# Altium schematic symbol library jlcpcb_2025_04_inductors_extended_0201.schlib: 459 symbols (part 6 of 9)
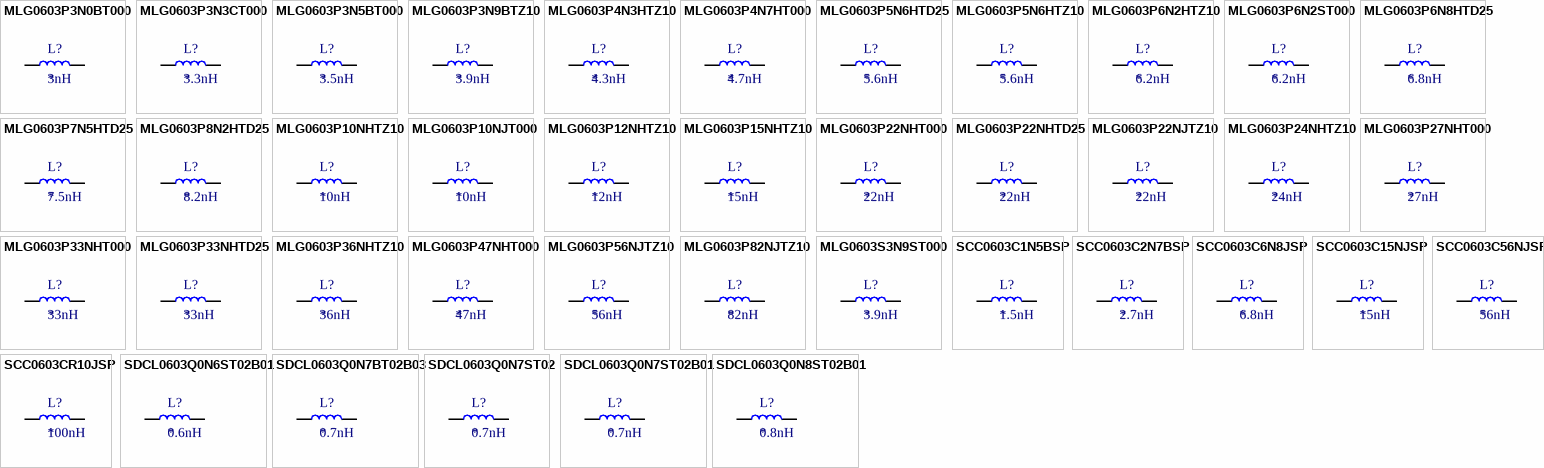
[diagram p16: symbols MLG0603P3N0BT000 to SDCL0603Q0N8ST02B01]

## SCC0603CR10JSP
designator L?  Inductance: 100nH
Inductor, 100nH, ±5%, 4Ω, 60mA, SMD 0201; Manufacturer: Sunltech Tech; Manufacturer Part Number: SCC0603CR10JSP; Package Size: 0201; JLCPCB Basic Part: No; JLCPCB Part Number: C412083; Supplier 1: LCSC; Category: Inductors; Supplier Part Number 1: C412083; Tolerance: ±5%; Rated Current: 60mA; DC Resistance: 4Ω; RoHS: Yes; ComponentLink1Description: Datasheet; ComponentLink1URL: https://wmsc.lcsc.com/wmsc/upload/file/pdf/v2/lcsc/1912111437_Sunltech-Tech-SCC0603CR10JSP_C412083.pdf; ComponentLink2Description: JLCPCB Part URL; ComponentLink2URL: https://jlcpcb.com/partdetail/C412083; ComponentLink3Description: LCSC Part URL; ComponentLink3URL: https://lcsc.com/product-detail/Inductors-SMD_Sunltech-Tech-Sunltech-Tech-SCC0603CR10JSP_C412083.html
footprint IND-0201 (0201 (0603M) Inductor)
pins: 1, 2

## SDCL0603Q0N6ST02B01
designator L?  Inductance: 0.6nH
Inductor, 0.6nH, 60mΩ, 600mA, SMD 0201; Manufacturer: Sunlord; Manufacturer Part Number: SDCL0603Q0N6ST02B01; Self-Resonant Frequency: 10GHz; Package Size: 0201; JLCPCB Basic Part: No; JLCPCB Part Number: C408405; Supplier 1: LCSC; Category: Inductors; Supplier Part Number 1: C408405; Rated Current: 600mA; DC Resistance: 60mΩ; RoHS: Yes; ComponentLink1Description: Datasheet; ComponentLink1URL: https://wmsc.lcsc.com/wmsc/upload/file/pdf/v2/lcsc/2304140030_Sunlord-SDCL0603Q0N6ST02B01_C408405.pdf; ComponentLink2Description: JLCPCB Part URL; ComponentLink2URL: https://jlcpcb.com/partdetail/C408405; ComponentLink3Description: LCSC Part URL; ComponentLink3URL: https://lcsc.com/product-detail/Inductors-SMD_Sunlord-Sunlord-SDCL0603Q0N6ST02B01_C408405.html
footprint IND-0201 (0201 (0603M) Inductor)
pins: 1, 2

## SDCL0603Q0N7BT02B03
designator L?  Inductance: 0.7nH
Inductor, 0.7nH, 60mΩ, 800mA, SMD 0201; Manufacturer: Sunlord; Manufacturer Part Number: SDCL0603Q0N7BT02B03; Self-Resonant Frequency: 20GHz; Q Factor: 13@500MHz; Package Size: 0201; JLCPCB Basic Part: No; JLCPCB Part Number: C525656; Supplier 1: LCSC; Category: Inductors; Supplier Part Number 1: C525656; Rated Current: 800mA; DC Resistance: 60mΩ; RoHS: Yes; ComponentLink1Description: Datasheet; ComponentLink1URL: https://wmsc.lcsc.com/wmsc/upload/file/pdf/v2/lcsc/2310301641_Sunlord-SDCL0603Q0N7BT02B03_C525656.pdf; ComponentLink2Description: JLCPCB Part URL; ComponentLink2URL: https://jlcpcb.com/partdetail/C525656; ComponentLink3Description: LCSC Part URL; ComponentLink3URL: https://lcsc.com/product-detail/Inductors-SMD_Sunlord-Sunlord-SDCL0603Q0N7BT02B03_C525656.html
footprint IND-0201 (0201 (0603M) Inductor)
pins: 1, 2

## SDCL0603Q0N7ST02
designator L?  Inductance: 0.7nH
Inductor, 0.7nH, 60mΩ, 150mA, SMD 0201; Manufacturer: Sunlord; Manufacturer Part Number: SDCL0603Q0N7ST02; Package Size: 0201; JLCPCB Basic Part: No; JLCPCB Part Number: C95900; Supplier 1: LCSC; Category: Inductors; Supplier Part Number 1: C95900; Rated Current: 150mA; DC Resistance: 60mΩ; RoHS: Yes; ComponentLink1Description: Datasheet; ComponentLink1URL: https://wmsc.lcsc.com/wmsc/upload/file/pdf/v2/lcsc/2304140030_Sunlord-SDCL0603Q0N7ST02_C95900.pdf; ComponentLink2Description: JLCPCB Part URL; ComponentLink2URL: https://jlcpcb.com/partdetail/C95900; ComponentLink3Description: LCSC Part URL; ComponentLink3URL: https://lcsc.com/product-detail/Inductors-SMD_Sunlord-Sunlord-SDCL0603Q0N7ST02_C95900.html
footprint IND-0201 (0201 (0603M) Inductor)
pins: 1, 2

## SDCL0603Q0N7ST02B01
designator L?  Inductance: 0.7nH
Inductor, 0.7nH, 60mΩ, 550mA, SMD 0201; Manufacturer: Sunlord; Manufacturer Part Number: SDCL0603Q0N7ST02B01; Self-Resonant Frequency: 10GHz; Q Factor: 13@500MHz; Package Size: 0201; JLCPCB Basic Part: No; JLCPCB Part Number: C408406; Supplier 1: LCSC; Category: Inductors; Supplier Part Number 1: C408406; Rated Current: 550mA; DC Resistance: 60mΩ; RoHS: Yes; ComponentLink1Description: Datasheet; ComponentLink1URL: https://wmsc.lcsc.com/wmsc/upload/file/pdf/v2/lcsc/2304140030_Sunlord-SDCL0603Q0N7ST02B01_C408406.pdf; ComponentLink2Description: JLCPCB Part URL; ComponentLink2URL: https://jlcpcb.com/partdetail/C408406; ComponentLink3Description: LCSC Part URL; ComponentLink3URL: https://lcsc.com/product-detail/Inductors-SMD_Sunlord-Sunlord-SDCL0603Q0N7ST02B01_C408406.html
footprint IND-0201 (0201 (0603M) Inductor)
pins: 1, 2

## SDCL0603Q0N8ST02B01
designator L?  Inductance: 0.8nH
Inductor, 0.8nH, 70mΩ, 550mA, SMD 0201; Manufacturer: Sunlord; Manufacturer Part Number: SDCL0603Q0N8ST02B01; Self-Resonant Frequency: 10GHz; Q Factor: 13@500MHz; Package Size: 0201; JLCPCB Basic Part: No; JLCPCB Part Number: C408612; Supplier 1: LCSC; Category: Inductors; Supplier Part Number 1: C408612; Rated Current: 550mA; DC Resistance: 70mΩ; RoHS: Yes; ComponentLink1Description: Datasheet; ComponentLink1URL: https://wmsc.lcsc.com/wmsc/upload/file/pdf/v2/lcsc/2304140030_Sunlord-SDCL0603Q0N8ST02B01_C408612.pdf; ComponentLink2Description: JLCPCB Part URL; ComponentLink2URL: https://jlcpcb.com/partdetail/C408612; ComponentLink3Description: LCSC Part URL; ComponentLink3URL: https://lcsc.com/product-detail/Inductors-SMD_Sunlord-Sunlord-SDCL0603Q0N8ST02B01_C408612.html
footprint IND-0201 (0201 (0603M) Inductor)
pins: 1, 2

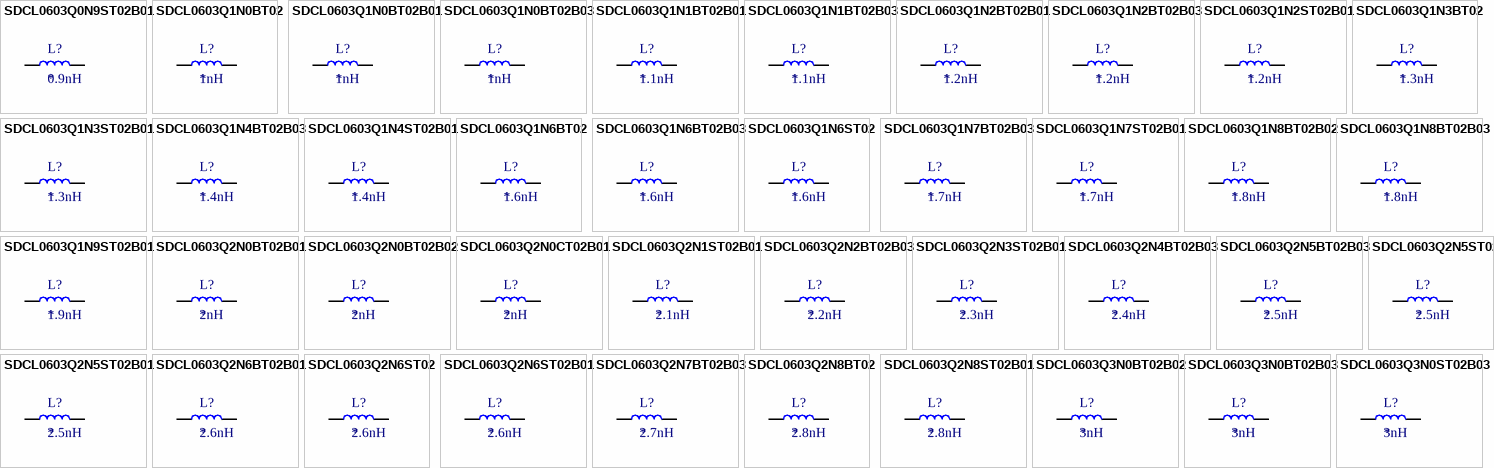
[diagram p7: symbols SDCL0603Q0N9ST02B01 to SDCL0603Q3N0ST02B03]

## SDCL0603Q0N9ST02B01
designator L?  Inductance: 0.9nH
Inductor, 0.9nH, 70mΩ, 550mA, SMD 0201; Manufacturer: Sunlord; Manufacturer Part Number: SDCL0603Q0N9ST02B01; Self-Resonant Frequency: 10GHz; Q Factor: 13@500MHz; Package Size: 0201; JLCPCB Basic Part: No; JLCPCB Part Number: C408613; Supplier 1: LCSC; Category: Inductors; Supplier Part Number 1: C408613; Rated Current: 550mA; DC Resistance: 70mΩ; RoHS: Yes; ComponentLink1Description: Datasheet; ComponentLink1URL: https://wmsc.lcsc.com/wmsc/upload/file/pdf/v2/lcsc/2304140030_Sunlord-SDCL0603Q0N9ST02B01_C408613.pdf; ComponentLink2Description: JLCPCB Part URL; ComponentLink2URL: https://jlcpcb.com/partdetail/C408613; ComponentLink3Description: LCSC Part URL; ComponentLink3URL: https://lcsc.com/product-detail/Inductors-SMD_Sunlord-Sunlord-SDCL0603Q0N9ST02B01_C408613.html
footprint IND-0201 (0201 (0603M) Inductor)
pins: 1, 2

## SDCL0603Q1N0BT02
designator L?  Inductance: 1nH
Inductor, 1nH, 80mΩ, 520mA, SMD 0201; Manufacturer: Sunlord; Manufacturer Part Number: SDCL0603Q1N0BT02; Package Size: 0201; JLCPCB Basic Part: No; JLCPCB Part Number: C279683; Supplier 1: LCSC; Category: Inductors; Supplier Part Number 1: C279683; Rated Current: 520mA; DC Resistance: 80mΩ; RoHS: Yes; ComponentLink1Description: Datasheet; ComponentLink1URL: https://wmsc.lcsc.com/wmsc/upload/file/pdf/v2/lcsc/2304140030_Sunlord-SDCL0603Q1N0BT02_C279683.pdf; ComponentLink2Description: JLCPCB Part URL; ComponentLink2URL: https://jlcpcb.com/partdetail/C279683; ComponentLink3Description: LCSC Part URL; ComponentLink3URL: https://lcsc.com/product-detail/Inductors-SMD_Sunlord-Sunlord-SDCL0603Q1N0BT02_C279683.html
footprint IND-0201 (0201 (0603M) Inductor)
pins: 1, 2

## SDCL0603Q1N0BT02B01
designator L?  Inductance: 1nH
Inductor, 1nH, 80mΩ, 520mA, SMD 0201; Manufacturer: Sunlord; Manufacturer Part Number: SDCL0603Q1N0BT02B01; Package Size: 0201; JLCPCB Basic Part: No; JLCPCB Part Number: C279670; Supplier 1: LCSC; Category: Inductors; Supplier Part Number 1: C279670; Rated Current: 520mA; DC Resistance: 80mΩ; RoHS: Yes; ComponentLink1Description: Datasheet; ComponentLink1URL: https://wmsc.lcsc.com/wmsc/upload/file/pdf/v2/lcsc/2304140030_Sunlord-SDCL0603Q1N0BT02B01_C279670.pdf; ComponentLink2Description: JLCPCB Part URL; ComponentLink2URL: https://jlcpcb.com/partdetail/C279670; ComponentLink3Description: LCSC Part URL; ComponentLink3URL: https://lcsc.com/product-detail/Inductors-SMD_Sunlord-Sunlord-SDCL0603Q1N0BT02B01_C279670.html
footprint IND-0201 (0201 (0603M) Inductor)
pins: 1, 2

## SDCL0603Q1N0BT02B03
designator L?  Inductance: 1nH
Inductor, 1nH, 80mΩ, 750mA, SMD 0201; Manufacturer: Sunlord; Manufacturer Part Number: SDCL0603Q1N0BT02B03; Self-Resonant Frequency: 500MHz; Q Factor: 13@500MHz; Package Size: 0201; JLCPCB Basic Part: No; JLCPCB Part Number: C279744; Supplier 1: LCSC; Category: Inductors; Supplier Part Number 1: C279744; Rated Current: 750mA; DC Resistance: 80mΩ; RoHS: Yes; ComponentLink1Description: Datasheet; ComponentLink1URL: https://wmsc.lcsc.com/wmsc/upload/file/pdf/v2/lcsc/2310301641_Sunlord-SDCL0603Q1N0BT02B03_C279744.pdf; ComponentLink2Description: JLCPCB Part URL; ComponentLink2URL: https://jlcpcb.com/partdetail/C279744; ComponentLink3Description: LCSC Part URL; ComponentLink3URL: https://lcsc.com/product-detail/Inductors-SMD_Sunlord-Sunlord-SDCL0603Q1N0BT02B03_C279744.html
footprint IND-0201 (0201 (0603M) Inductor)
pins: 1, 2

## SDCL0603Q1N1BT02B01
designator L?  Inductance: 1.1nH
Inductor, 1.1nH, SMD 0201; Manufacturer: Sunlord; Manufacturer Part Number: SDCL0603Q1N1BT02B01; Package Size: 0201; JLCPCB Basic Part: No; JLCPCB Part Number: C918984; Supplier 1: LCSC; Category: Inductors; Supplier Part Number 1: C918984; RoHS: Yes; ComponentLink1Description: Datasheet; ComponentLink2Description: JLCPCB Part URL; ComponentLink2URL: https://jlcpcb.com/partdetail/C918984; ComponentLink3Description: LCSC Part URL; ComponentLink3URL: https://lcsc.com/product-detail/Inductors-SMD_Sunlord-Sunlord-SDCL0603Q1N1BT02B01_C918984.html
footprint IND-0201 (0201 (0603M) Inductor)
pins: 1, 2

## SDCL0603Q1N1BT02B03
designator L?  Inductance: 1.1nH
Inductor, 1.1nH, 100mΩ, 750mA, SMD 0201; Manufacturer: Sunlord; Manufacturer Part Number: SDCL0603Q1N1BT02B03; Self-Resonant Frequency: 17GHz; Q Factor: 13@500MHz; Package Size: 0201; JLCPCB Basic Part: No; JLCPCB Part Number: C370115; Supplier 1: LCSC; Category: Inductors; Supplier Part Number 1: C370115; Rated Current: 750mA; DC Resistance: 100mΩ; RoHS: Yes; ComponentLink1Description: Datasheet; ComponentLink1URL: https://wmsc.lcsc.com/wmsc/upload/file/pdf/v2/lcsc/2310301641_Sunlord-SDCL0603Q1N1BT02B03_C370115.pdf; ComponentLink2Description: JLCPCB Part URL; ComponentLink2URL: https://jlcpcb.com/partdetail/C370115; ComponentLink3Description: LCSC Part URL; ComponentLink3URL: https://lcsc.com/product-detail/Inductors-SMD_Sunlord-Sunlord-SDCL0603Q1N1BT02B03_C370115.html
footprint IND-0201 (0201 (0603M) Inductor)
pins: 1, 2

## SDCL0603Q1N2BT02B01
designator L?  Inductance: 1.2nH
Inductor, 1.2nH, 120mΩ, 420mA, SMD 0201; Manufacturer: Sunlord; Manufacturer Part Number: SDCL0603Q1N2BT02B01; Package Size: 0201; JLCPCB Basic Part: No; JLCPCB Part Number: C279677; Supplier 1: LCSC; Category: Inductors; Supplier Part Number 1: C279677; Rated Current: 420mA; DC Resistance: 120mΩ; RoHS: Yes; ComponentLink1Description: Datasheet; ComponentLink1URL: https://wmsc.lcsc.com/wmsc/upload/file/pdf/v2/lcsc/2304140030_Sunlord-SDCL0603Q1N2BT02B01_C279677.pdf; ComponentLink2Description: JLCPCB Part URL; ComponentLink2URL: https://jlcpcb.com/partdetail/C279677; ComponentLink3Description: LCSC Part URL; ComponentLink3URL: https://lcsc.com/product-detail/Inductors-SMD_Sunlord-Sunlord-SDCL0603Q1N2BT02B01_C279677.html
footprint IND-0201 (0201 (0603M) Inductor)
pins: 1, 2

## SDCL0603Q1N2BT02B03
designator L?  Inductance: 1.2nH
Inductor, 1.2nH, 100mΩ, 750mA, SMD 0201; Manufacturer: Sunlord; Manufacturer Part Number: SDCL0603Q1N2BT02B03; Self-Resonant Frequency: 500MHz; Q Factor: 13@500MHz; Package Size: 0201; JLCPCB Basic Part: No; JLCPCB Part Number: C370116; Supplier 1: LCSC; Category: Inductors; Supplier Part Number 1: C370116; Rated Current: 750mA; DC Resistance: 100mΩ; RoHS: Yes; ComponentLink1Description: Datasheet; ComponentLink1URL: https://wmsc.lcsc.com/wmsc/upload/file/pdf/v2/lcsc/2310301641_Sunlord-SDCL0603Q1N2BT02B03_C370116.pdf; ComponentLink2Description: JLCPCB Part URL; ComponentLink2URL: https://jlcpcb.com/partdetail/C370116; ComponentLink3Description: LCSC Part URL; ComponentLink3URL: https://lcsc.com/product-detail/Inductors-SMD_Sunlord-Sunlord-SDCL0603Q1N2BT02B03_C370116.html
footprint IND-0201 (0201 (0603M) Inductor)
pins: 1, 2

## SDCL0603Q1N2ST02B01
designator L?  Inductance: 1.2nH
Inductor, 1.2nH, 120mΩ, 420mA, SMD 0201; Manufacturer: Sunlord; Manufacturer Part Number: SDCL0603Q1N2ST02B01; Package Size: 0201; JLCPCB Basic Part: No; JLCPCB Part Number: C279701; Supplier 1: LCSC; Category: Inductors; Supplier Part Number 1: C279701; Rated Current: 420mA; DC Resistance: 120mΩ; RoHS: Yes; ComponentLink1Description: Datasheet; ComponentLink1URL: https://wmsc.lcsc.com/wmsc/upload/file/pdf/v2/lcsc/2304140030_Sunlord-SDCL0603Q1N2ST02B01_C279701.pdf; ComponentLink2Description: JLCPCB Part URL; ComponentLink2URL: https://jlcpcb.com/partdetail/C279701; ComponentLink3Description: LCSC Part URL; ComponentLink3URL: https://lcsc.com/product-detail/Inductors-SMD_Sunlord-Sunlord-SDCL0603Q1N2ST02B01_C279701.html
footprint IND-0201 (0201 (0603M) Inductor)
pins: 1, 2

## SDCL0603Q1N3BT02
designator L?  Inductance: 1.3nH
Inductor, 1.3nH, SMD 0201; Manufacturer: Sunlord; Manufacturer Part Number: SDCL0603Q1N3BT02; Package Size: 0201; JLCPCB Basic Part: No; JLCPCB Part Number: C918985; Supplier 1: LCSC; Category: Inductors; Supplier Part Number 1: C918985; RoHS: Yes; ComponentLink1Description: Datasheet; ComponentLink2Description: JLCPCB Part URL; ComponentLink2URL: https://jlcpcb.com/partdetail/C918985; ComponentLink3Description: LCSC Part URL; ComponentLink3URL: https://lcsc.com/product-detail/Inductors-SMD_Sunlord-Sunlord-SDCL0603Q1N3BT02_C918985.html
footprint IND-0201 (0201 (0603M) Inductor)
pins: 1, 2

## SDCL0603Q1N3ST02B01
designator L?  Inductance: 1.3nH
Inductor, 1.3nH, 120mΩ, 420mA, SMD 0201; Manufacturer: Sunlord; Manufacturer Part Number: SDCL0603Q1N3ST02B01; Self-Resonant Frequency: 10GHz; Q Factor: 13@500MHz; Package Size: 0201; JLCPCB Basic Part: No; JLCPCB Part Number: C408615; Supplier 1: LCSC; Category: Inductors; Supplier Part Number 1: C408615; Rated Current: 420mA; DC Resistance: 120mΩ; RoHS: Yes; ComponentLink1Description: Datasheet; ComponentLink1URL: https://wmsc.lcsc.com/wmsc/upload/file/pdf/v2/lcsc/2304140030_Sunlord-SDCL0603Q1N3ST02B01_C408615.pdf; ComponentLink2Description: JLCPCB Part URL; ComponentLink2URL: https://jlcpcb.com/partdetail/C408615; ComponentLink3Description: LCSC Part URL; ComponentLink3URL: https://lcsc.com/product-detail/Inductors-SMD_Sunlord-Sunlord-SDCL0603Q1N3ST02B01_C408615.html
footprint IND-0201 (0201 (0603M) Inductor)
pins: 1, 2

## SDCL0603Q1N4BT02B03
designator L?  Inductance: 1.4nH
Inductor, 1.4nH, 120mΩ, 600mA, SMD 0201; Manufacturer: Sunlord; Manufacturer Part Number: SDCL0603Q1N4BT02B03; Self-Resonant Frequency: 16GHz; Q Factor: 13@500MHz; Package Size: 0201; JLCPCB Basic Part: No; JLCPCB Part Number: C370124; Supplier 1: LCSC; Category: Inductors; Supplier Part Number 1: C370124; Rated Current: 600mA; DC Resistance: 120mΩ; RoHS: Yes; ComponentLink1Description: Datasheet; ComponentLink1URL: https://wmsc.lcsc.com/wmsc/upload/file/pdf/v2/lcsc/2310301641_Sunlord-SDCL0603Q1N4BT02B03_C370124.pdf; ComponentLink2Description: JLCPCB Part URL; ComponentLink2URL: https://jlcpcb.com/partdetail/C370124; ComponentLink3Description: LCSC Part URL; ComponentLink3URL: https://lcsc.com/product-detail/Inductors-SMD_Sunlord-Sunlord-SDCL0603Q1N4BT02B03_C370124.html
footprint IND-0201 (0201 (0603M) Inductor)
pins: 1, 2

## SDCL0603Q1N4ST02B01
designator L?  Inductance: 1.4nH
Inductor, 1.4nH, 110mΩ, 440mA, SMD 0201; Manufacturer: Sunlord; Manufacturer Part Number: SDCL0603Q1N4ST02B01; Self-Resonant Frequency: 10GHz; Package Size: 0201; JLCPCB Basic Part: No; JLCPCB Part Number: C408616; Supplier 1: LCSC; Category: Inductors; Supplier Part Number 1: C408616; Rated Current: 440mA; DC Resistance: 110mΩ; RoHS: Yes; ComponentLink1Description: Datasheet; ComponentLink1URL: https://wmsc.lcsc.com/wmsc/upload/file/pdf/v2/lcsc/2304140030_Sunlord-SDCL0603Q1N4ST02B01_C408616.pdf; ComponentLink2Description: JLCPCB Part URL; ComponentLink2URL: https://jlcpcb.com/partdetail/C408616; ComponentLink3Description: LCSC Part URL; ComponentLink3URL: https://lcsc.com/product-detail/Inductors-SMD_Sunlord-Sunlord-SDCL0603Q1N4ST02B01_C408616.html
footprint IND-0201 (0201 (0603M) Inductor)
pins: 1, 2

## SDCL0603Q1N6BT02
designator L?  Inductance: 1.6nH
Inductor, 1.6nH, SMD 0201; Manufacturer: Sunlord; Manufacturer Part Number: SDCL0603Q1N6BT02; Package Size: 0201; JLCPCB Basic Part: No; JLCPCB Part Number: C918986; Supplier 1: LCSC; Category: Inductors; Supplier Part Number 1: C918986; RoHS: Yes; ComponentLink1Description: Datasheet; ComponentLink2Description: JLCPCB Part URL; ComponentLink2URL: https://jlcpcb.com/partdetail/C918986; ComponentLink3Description: LCSC Part URL; ComponentLink3URL: https://lcsc.com/product-detail/Inductors-SMD_Sunlord-Sunlord-SDCL0603Q1N6BT02_C918986.html
footprint IND-0201 (0201 (0603M) Inductor)
pins: 1, 2

## SDCL0603Q1N6BT02B03
designator L?  Inductance: 1.6nH
Inductor, 1.6nH, SMD 0201; Manufacturer: Sunlord; Manufacturer Part Number: SDCL0603Q1N6BT02B03; Package Size: 0201; JLCPCB Basic Part: No; JLCPCB Part Number: C2982968; Supplier 1: LCSC; Category: Inductors; Supplier Part Number 1: C2982968; RoHS: Yes; ComponentLink1Description: Datasheet; ComponentLink1URL: https://wmsc.lcsc.com/wmsc/upload/file/pdf/v2/lcsc/2310301641_Sunlord-SDCL0603Q1N6BT02B03_C2982968.pdf; ComponentLink2Description: JLCPCB Part URL; ComponentLink2URL: https://jlcpcb.com/partdetail/C2982968; ComponentLink3Description: LCSC Part URL; ComponentLink3URL: https://lcsc.com/product-detail/Inductors-SMD_Sunlord-Sunlord-SDCL0603Q1N6BT02B03_C2982968.html
footprint IND-0201 (0201 (0603M) Inductor)
pins: 1, 2

## SDCL0603Q1N6ST02
designator L?  Inductance: 1.6nH
Inductor, 1.6nH, 130mΩ, 410mA, SMD 0201; Manufacturer: Sunlord; Manufacturer Part Number: SDCL0603Q1N6ST02; Package Size: 0201; JLCPCB Basic Part: No; JLCPCB Part Number: C95907; Supplier 1: LCSC; Category: Inductors; Supplier Part Number 1: C95907; Rated Current: 410mA; DC Resistance: 130mΩ; RoHS: Yes; ComponentLink1Description: Datasheet; ComponentLink1URL: https://wmsc.lcsc.com/wmsc/upload/file/pdf/v2/lcsc/2304140030_Sunlord-SDCL0603Q1N6ST02_C95907.pdf; ComponentLink2Description: JLCPCB Part URL; ComponentLink2URL: https://jlcpcb.com/partdetail/C95907; ComponentLink3Description: LCSC Part URL; ComponentLink3URL: https://lcsc.com/product-detail/Inductors-SMD_Sunlord-Sunlord-SDCL0603Q1N6ST02_C95907.html
footprint IND-0201 (0201 (0603M) Inductor)
pins: 1, 2

## SDCL0603Q1N7BT02B03
designator L?  Inductance: 1.7nH
Inductor, 1.7nH, 150mΩ, 600mA, SMD 0201; Manufacturer: Sunlord; Manufacturer Part Number: SDCL0603Q1N7BT02B03; Self-Resonant Frequency: 15GHz; Q Factor: 13@500MHz; Package Size: 0201; JLCPCB Basic Part: No; JLCPCB Part Number: C2991777; Supplier 1: LCSC; Category: Inductors; Supplier Part Number 1: C2991777; Rated Current: 600mA; DC Resistance: 150mΩ; RoHS: Yes; ComponentLink1Description: Datasheet; ComponentLink1URL: https://wmsc.lcsc.com/wmsc/upload/file/pdf/v2/lcsc/2310301641_Sunlord-SDCL0603Q1N7BT02B03_C2991777.pdf; ComponentLink2Description: JLCPCB Part URL; ComponentLink2URL: https://jlcpcb.com/partdetail/C2991777; ComponentLink3Description: LCSC Part URL; ComponentLink3URL: https://lcsc.com/product-detail/Inductors-SMD_Sunlord-Sunlord-SDCL0603Q1N7BT02B03_C2991777.html
footprint IND-0201 (0201 (0603M) Inductor)
pins: 1, 2

## SDCL0603Q1N7ST02B01
designator L?  Inductance: 1.7nH
Inductor, 1.7nH, 150mΩ, 380mA, SMD 0201; Manufacturer: Sunlord; Manufacturer Part Number: SDCL0603Q1N7ST02B01; Self-Resonant Frequency: 10GHz; Q Factor: 13@500MHz; Package Size: 0201; JLCPCB Basic Part: No; JLCPCB Part Number: C408617; Supplier 1: LCSC; Category: Inductors; Supplier Part Number 1: C408617; Rated Current: 380mA; DC Resistance: 150mΩ; RoHS: Yes; ComponentLink1Description: Datasheet; ComponentLink1URL: https://wmsc.lcsc.com/wmsc/upload/file/pdf/v2/lcsc/2304140030_Sunlord-SDCL0603Q1N7ST02B01_C408617.pdf; ComponentLink2Description: JLCPCB Part URL; ComponentLink2URL: https://jlcpcb.com/partdetail/C408617; ComponentLink3Description: LCSC Part URL; ComponentLink3URL: https://lcsc.com/product-detail/Inductors-SMD_Sunlord-Sunlord-SDCL0603Q1N7ST02B01_C408617.html
footprint IND-0201 (0201 (0603M) Inductor)
pins: 1, 2

## SDCL0603Q1N8BT02B02
designator L?  Inductance: 1.8nH
Inductor, 1.8nH, 180mΩ, 500mA, SMD 0201; Manufacturer: Sunlord; Manufacturer Part Number: SDCL0603Q1N8BT02B02; Package Size: 0201; JLCPCB Basic Part: No; JLCPCB Part Number: C279792; Supplier 1: LCSC; Category: Inductors; Supplier Part Number 1: C279792; Rated Current: 500mA; DC Resistance: 180mΩ; RoHS: Yes; ComponentLink1Description: Datasheet; ComponentLink1URL: https://wmsc.lcsc.com/wmsc/upload/file/pdf/v2/lcsc/2304140030_Sunlord-SDCL0603Q1N8BT02B02_C279792.pdf; ComponentLink2Description: JLCPCB Part URL; ComponentLink2URL: https://jlcpcb.com/partdetail/C279792; ComponentLink3Description: LCSC Part URL; ComponentLink3URL: https://lcsc.com/product-detail/Inductors-SMD_Sunlord-Sunlord-SDCL0603Q1N8BT02B02_C279792.html
footprint IND-0201 (0201 (0603M) Inductor)
pins: 1, 2

## SDCL0603Q1N8BT02B03
designator L?  Inductance: 1.8nH
Inductor, 1.8nH, 150mΩ, 600mA, SMD 0201; Manufacturer: Sunlord; Manufacturer Part Number: SDCL0603Q1N8BT02B03; Self-Resonant Frequency: 500MHz; Q Factor: 13@500MHz; Package Size: 0201; JLCPCB Basic Part: No; JLCPCB Part Number: C279815; Supplier 1: LCSC; Category: Inductors; Supplier Part Number 1: C279815; Rated Current: 600mA; DC Resistance: 150mΩ; RoHS: Yes; ComponentLink1Description: Datasheet; ComponentLink1URL: https://wmsc.lcsc.com/wmsc/upload/file/pdf/v2/lcsc/2310301641_Sunlord-SDCL0603Q1N8BT02B03_C279815.pdf; ComponentLink2Description: JLCPCB Part URL; ComponentLink2URL: https://jlcpcb.com/partdetail/C279815; ComponentLink3Description: LCSC Part URL; ComponentLink3URL: https://lcsc.com/product-detail/Inductors-SMD_Sunlord-Sunlord-SDCL0603Q1N8BT02B03_C279815.html
footprint IND-0201 (0201 (0603M) Inductor)
pins: 1, 2

## SDCL0603Q1N9ST02B01
designator L?  Inductance: 1.9nH
Inductor, 1.9nH, 180mΩ, 350mA, SMD 0201; Manufacturer: Sunlord; Manufacturer Part Number: SDCL0603Q1N9ST02B01; Self-Resonant Frequency: 10GHz; Q Factor: 13@500MHz; Package Size: 0201; JLCPCB Basic Part: No; JLCPCB Part Number: C408618; Supplier 1: LCSC; Category: Inductors; Supplier Part Number 1: C408618; Rated Current: 350mA; DC Resistance: 180mΩ; RoHS: Yes; ComponentLink1Description: Datasheet; ComponentLink1URL: https://wmsc.lcsc.com/wmsc/upload/file/pdf/v2/lcsc/2304140030_Sunlord-SDCL0603Q1N9ST02B01_C408618.pdf; ComponentLink2Description: JLCPCB Part URL; ComponentLink2URL: https://jlcpcb.com/partdetail/C408618; ComponentLink3Description: LCSC Part URL; ComponentLink3URL: https://lcsc.com/product-detail/Inductors-SMD_Sunlord-Sunlord-SDCL0603Q1N9ST02B01_C408618.html
footprint IND-0201 (0201 (0603M) Inductor)
pins: 1, 2

## SDCL0603Q2N0BT02B01
designator L?  Inductance: 2nH
Inductor, 2nH, 230mΩ, 300mA, SMD 0201; Manufacturer: Sunlord; Manufacturer Part Number: SDCL0603Q2N0BT02B01; Package Size: 0201; JLCPCB Basic Part: No; JLCPCB Part Number: C279696; Supplier 1: LCSC; Category: Inductors; Supplier Part Number 1: C279696; Rated Current: 300mA; DC Resistance: 230mΩ; RoHS: Yes; ComponentLink1Description: Datasheet; ComponentLink1URL: https://wmsc.lcsc.com/wmsc/upload/file/pdf/v2/lcsc/2304140030_Sunlord-SDCL0603Q2N0BT02B01_C279696.pdf; ComponentLink2Description: JLCPCB Part URL; ComponentLink2URL: https://jlcpcb.com/partdetail/C279696; ComponentLink3Description: LCSC Part URL; ComponentLink3URL: https://lcsc.com/product-detail/Inductors-SMD_Sunlord-Sunlord-SDCL0603Q2N0BT02B01_C279696.html
footprint IND-0201 (0201 (0603M) Inductor)
pins: 1, 2

## SDCL0603Q2N0BT02B02
designator L?  Inductance: 2nH
Inductor, 2nH, SMD 0201; Manufacturer: Sunlord; Manufacturer Part Number: SDCL0603Q2N0BT02B02; Package Size: 0201; JLCPCB Basic Part: No; JLCPCB Part Number: C918987; Supplier 1: LCSC; Category: Inductors; Supplier Part Number 1: C918987; RoHS: Yes; ComponentLink1Description: Datasheet; ComponentLink2Description: JLCPCB Part URL; ComponentLink2URL: https://jlcpcb.com/partdetail/C918987; ComponentLink3Description: LCSC Part URL; ComponentLink3URL: https://lcsc.com/product-detail/Inductors-SMD_Sunlord-Sunlord-SDCL0603Q2N0BT02B02_C918987.html
footprint IND-0201 (0201 (0603M) Inductor)
pins: 1, 2

## SDCL0603Q2N0CT02B01
designator L?  Inductance: 2nH
Inductor, 2nH, 230mΩ, 300mA, SMD 0201; Manufacturer: Sunlord; Manufacturer Part Number: SDCL0603Q2N0CT02B01; Package Size: 0201; JLCPCB Basic Part: No; JLCPCB Part Number: C370136; Supplier 1: LCSC; Category: Inductors; Supplier Part Number 1: C370136; Rated Current: 300mA; DC Resistance: 230mΩ; RoHS: Yes; ComponentLink1Description: Datasheet; ComponentLink1URL: https://wmsc.lcsc.com/wmsc/upload/file/pdf/v2/lcsc/2304140030_Sunlord-SDCL0603Q2N0CT02B01_C370136.pdf; ComponentLink2Description: JLCPCB Part URL; ComponentLink2URL: https://jlcpcb.com/partdetail/C370136; ComponentLink3Description: LCSC Part URL; ComponentLink3URL: https://lcsc.com/product-detail/Inductors-SMD_Sunlord-Sunlord-SDCL0603Q2N0CT02B01_C370136.html
footprint IND-0201 (0201 (0603M) Inductor)
pins: 1, 2

## SDCL0603Q2N1ST02B01
designator L?  Inductance: 2.1nH
Inductor, 2.1nH, 240mΩ, 300mA, SMD 0201; Manufacturer: Sunlord; Manufacturer Part Number: SDCL0603Q2N1ST02B01; Self-Resonant Frequency: 10GHz; Q Factor: 13@500MHz; Package Size: 0201; JLCPCB Basic Part: No; JLCPCB Part Number: C408619; Supplier 1: LCSC; Category: Inductors; Supplier Part Number 1: C408619; Rated Current: 300mA; DC Resistance: 240mΩ; RoHS: Yes; ComponentLink1Description: Datasheet; ComponentLink1URL: https://wmsc.lcsc.com/wmsc/upload/file/pdf/v2/lcsc/2304140030_Sunlord-SDCL0603Q2N1ST02B01_C408619.pdf; ComponentLink2Description: JLCPCB Part URL; ComponentLink2URL: https://jlcpcb.com/partdetail/C408619; ComponentLink3Description: LCSC Part URL; ComponentLink3URL: https://lcsc.com/product-detail/Inductors-SMD_Sunlord-Sunlord-SDCL0603Q2N1ST02B01_C408619.html
footprint IND-0201 (0201 (0603M) Inductor)
pins: 1, 2

## SDCL0603Q2N2BT02B03
designator L?  Inductance: 2.2nH
Inductor, 2.2nH, 150mΩ, 600mA, SMD 0201; Manufacturer: Sunlord; Manufacturer Part Number: SDCL0603Q2N2BT02B03; Self-Resonant Frequency: 500MHz; Q Factor: 13@500MHz; Package Size: 0201; JLCPCB Basic Part: No; JLCPCB Part Number: C279967; Supplier 1: LCSC; Category: Inductors; Supplier Part Number 1: C279967; Rated Current: 600mA; DC Resistance: 150mΩ; RoHS: Yes; ComponentLink1Description: Datasheet; ComponentLink1URL: https://wmsc.lcsc.com/wmsc/upload/file/pdf/v2/lcsc/2310301641_Sunlord-SDCL0603Q2N2BT02B03_C279967.pdf; ComponentLink2Description: JLCPCB Part URL; ComponentLink2URL: https://jlcpcb.com/partdetail/C279967; ComponentLink3Description: LCSC Part URL; ComponentLink3URL: https://lcsc.com/product-detail/Inductors-SMD_Sunlord-Sunlord-SDCL0603Q2N2BT02B03_C279967.html
footprint IND-0201 (0201 (0603M) Inductor)
pins: 1, 2

## SDCL0603Q2N3ST02B01
designator L?  Inductance: 2.3nH
Inductor, 2.3nH, 200mΩ, 330mA, SMD 0201; Manufacturer: Sunlord; Manufacturer Part Number: SDCL0603Q2N3ST02B01; Self-Resonant Frequency: 10GHz; Q Factor: 13@500MHz; Package Size: 0201; JLCPCB Basic Part: No; JLCPCB Part Number: C408620; Supplier 1: LCSC; Category: Inductors; Supplier Part Number 1: C408620; Rated Current: 330mA; DC Resistance: 200mΩ; RoHS: Yes; ComponentLink1Description: Datasheet; ComponentLink1URL: https://wmsc.lcsc.com/wmsc/upload/file/pdf/v2/lcsc/2304140030_Sunlord-SDCL0603Q2N3ST02B01_C408620.pdf; ComponentLink2Description: JLCPCB Part URL; ComponentLink2URL: https://jlcpcb.com/partdetail/C408620; ComponentLink3Description: LCSC Part URL; ComponentLink3URL: https://lcsc.com/product-detail/Inductors-SMD_Sunlord-Sunlord-SDCL0603Q2N3ST02B01_C408620.html
footprint IND-0201 (0201 (0603M) Inductor)
pins: 1, 2

## SDCL0603Q2N4BT02B03
designator L?  Inductance: 2.4nH
Inductor, 2.4nH, 200mΩ, 500mA, SMD 0201; Manufacturer: Sunlord; Manufacturer Part Number: SDCL0603Q2N4BT02B03; Q Factor: 13@500MHz; Package Size: 0201; JLCPCB Basic Part: No; JLCPCB Part Number: C279743; Supplier 1: LCSC; Category: Inductors; Supplier Part Number 1: C279743; Rated Current: 500mA; DC Resistance: 200mΩ; RoHS: Yes; ComponentLink1Description: Datasheet; ComponentLink1URL: https://wmsc.lcsc.com/wmsc/upload/file/pdf/v2/lcsc/2310301641_Sunlord-SDCL0603Q2N4BT02B03_C279743.pdf; ComponentLink2Description: JLCPCB Part URL; ComponentLink2URL: https://jlcpcb.com/partdetail/C279743; ComponentLink3Description: LCSC Part URL; ComponentLink3URL: https://lcsc.com/product-detail/Inductors-SMD_Sunlord-Sunlord-SDCL0603Q2N4BT02B03_C279743.html
footprint IND-0201 (0201 (0603M) Inductor)
pins: 1, 2

## SDCL0603Q2N5BT02B03
designator L?  Inductance: 2.5nH
Inductor, 2.5nH, 200mΩ, 500mA, SMD 0201; Manufacturer: Sunlord; Manufacturer Part Number: SDCL0603Q2N5BT02B03; Self-Resonant Frequency: 500MHz; Q Factor: 13@500MHz; Package Size: 0201; JLCPCB Basic Part: No; JLCPCB Part Number: C370143; Supplier 1: LCSC; Category: Inductors; Supplier Part Number 1: C370143; Rated Current: 500mA; DC Resistance: 200mΩ; RoHS: Yes; ComponentLink1Description: Datasheet; ComponentLink1URL: https://wmsc.lcsc.com/wmsc/upload/file/pdf/v2/lcsc/2310301641_Sunlord-SDCL0603Q2N5BT02B03_C370143.pdf; ComponentLink2Description: JLCPCB Part URL; ComponentLink2URL: https://jlcpcb.com/partdetail/C370143; ComponentLink3Description: LCSC Part URL; ComponentLink3URL: https://lcsc.com/product-detail/Inductors-SMD_Sunlord-Sunlord-SDCL0603Q2N5BT02B03_C370143.html
footprint IND-0201 (0201 (0603M) Inductor)
pins: 1, 2

## SDCL0603Q2N5ST02
designator L?  Inductance: 2.5nH
Inductor, 2.5nH, 200mΩ, 330mA, SMD 0201; Manufacturer: Sunlord; Manufacturer Part Number: SDCL0603Q2N5ST02; Package Size: 0201; JLCPCB Basic Part: No; JLCPCB Part Number: C95912; Supplier 1: LCSC; Category: Inductors; Supplier Part Number 1: C95912; Rated Current: 330mA; DC Resistance: 200mΩ; RoHS: Yes; ComponentLink1Description: Datasheet; ComponentLink1URL: https://wmsc.lcsc.com/wmsc/upload/file/pdf/v2/lcsc/2304140030_Sunlord-SDCL0603Q2N5ST02_C95912.pdf; ComponentLink2Description: JLCPCB Part URL; ComponentLink2URL: https://jlcpcb.com/partdetail/C95912; ComponentLink3Description: LCSC Part URL; ComponentLink3URL: https://lcsc.com/product-detail/Inductors-SMD_Sunlord-Sunlord-SDCL0603Q2N5ST02_C95912.html
footprint IND-0201 (0201 (0603M) Inductor)
pins: 1, 2

## SDCL0603Q2N5ST02B01
designator L?  Inductance: 2.5nH
Inductor, 2.5nH, 200mΩ, 330mA, SMD 0201; Manufacturer: Sunlord; Manufacturer Part Number: SDCL0603Q2N5ST02B01; Self-Resonant Frequency: 9.6GHz; Q Factor: 13@500MHz; Package Size: 0201; JLCPCB Basic Part: No; JLCPCB Part Number: C408621; Supplier 1: LCSC; Category: Inductors; Supplier Part Number 1: C408621; Rated Current: 330mA; DC Resistance: 200mΩ; RoHS: Yes; ComponentLink1Description: Datasheet; ComponentLink1URL: https://wmsc.lcsc.com/wmsc/upload/file/pdf/v2/lcsc/2304140030_Sunlord-SDCL0603Q2N5ST02B01_C408621.pdf; ComponentLink2Description: JLCPCB Part URL; ComponentLink2URL: https://jlcpcb.com/partdetail/C408621; ComponentLink3Description: LCSC Part URL; ComponentLink3URL: https://lcsc.com/product-detail/Inductors-SMD_Sunlord-Sunlord-SDCL0603Q2N5ST02B01_C408621.html
footprint IND-0201 (0201 (0603M) Inductor)
pins: 1, 2

## SDCL0603Q2N6BT02B01
designator L?  Inductance: 2.6nH
Inductor, 2.6nH, 200mΩ, 330mA, SMD 0201; Manufacturer: Sunlord; Manufacturer Part Number: SDCL0603Q2N6BT02B01; Package Size: 0201; JLCPCB Basic Part: No; JLCPCB Part Number: C370145; Supplier 1: LCSC; Category: Inductors; Supplier Part Number 1: C370145; Rated Current: 330mA; DC Resistance: 200mΩ; RoHS: Yes; ComponentLink1Description: Datasheet; ComponentLink1URL: https://wmsc.lcsc.com/wmsc/upload/file/pdf/v2/lcsc/2304140030_Sunlord-SDCL0603Q2N6BT02B01_C370145.pdf; ComponentLink2Description: JLCPCB Part URL; ComponentLink2URL: https://jlcpcb.com/partdetail/C370145; ComponentLink3Description: LCSC Part URL; ComponentLink3URL: https://lcsc.com/product-detail/Inductors-SMD_Sunlord-Sunlord-SDCL0603Q2N6BT02B01_C370145.html
footprint IND-0201 (0201 (0603M) Inductor)
pins: 1, 2

## SDCL0603Q2N6ST02
designator L?  Inductance: 2.6nH
Inductor, 2.6nH, 200mΩ, 330mA, SMD 0201; Manufacturer: Sunlord; Manufacturer Part Number: SDCL0603Q2N6ST02; Package Size: 0201; JLCPCB Basic Part: No; JLCPCB Part Number: C95913; Supplier 1: LCSC; Category: Inductors; Supplier Part Number 1: C95913; Rated Current: 330mA; DC Resistance: 200mΩ; RoHS: Yes; ComponentLink1Description: Datasheet; ComponentLink1URL: https://wmsc.lcsc.com/wmsc/upload/file/pdf/v2/lcsc/2304140030_Sunlord-SDCL0603Q2N6ST02_C95913.pdf; ComponentLink2Description: JLCPCB Part URL; ComponentLink2URL: https://jlcpcb.com/partdetail/C95913; ComponentLink3Description: LCSC Part URL; ComponentLink3URL: https://lcsc.com/product-detail/Inductors-SMD_Sunlord-Sunlord-SDCL0603Q2N6ST02_C95913.html
footprint IND-0201 (0201 (0603M) Inductor)
pins: 1, 2

## SDCL0603Q2N6ST02B01
designator L?  Inductance: 2.6nH
Inductor, 2.6nH, 200mΩ, 330mA, SMD 0201; Manufacturer: Sunlord; Manufacturer Part Number: SDCL0603Q2N6ST02B01; Self-Resonant Frequency: 9.4GHz; Q Factor: 13@500MHz; Package Size: 0201; JLCPCB Basic Part: No; JLCPCB Part Number: C408622; Supplier 1: LCSC; Category: Inductors; Supplier Part Number 1: C408622; Rated Current: 330mA; DC Resistance: 200mΩ; RoHS: Yes; ComponentLink1Description: Datasheet; ComponentLink1URL: https://wmsc.lcsc.com/wmsc/upload/file/pdf/v2/lcsc/2304140030_Sunlord-SDCL0603Q2N6ST02B01_C408622.pdf; ComponentLink2Description: JLCPCB Part URL; ComponentLink2URL: https://jlcpcb.com/partdetail/C408622; ComponentLink3Description: LCSC Part URL; ComponentLink3URL: https://lcsc.com/product-detail/Inductors-SMD_Sunlord-Sunlord-SDCL0603Q2N6ST02B01_C408622.html
footprint IND-0201 (0201 (0603M) Inductor)
pins: 1, 2

## SDCL0603Q2N7BT02B03
designator L?  Inductance: 2.7nH
Inductor, 2.7nH, 200mΩ, 500mA, SMD 0201; Manufacturer: Sunlord; Manufacturer Part Number: SDCL0603Q2N7BT02B03; Self-Resonant Frequency: 500MHz; Q Factor: 13@500MHz; Package Size: 0201; JLCPCB Basic Part: No; JLCPCB Part Number: C279775; Supplier 1: LCSC; Category: Inductors; Supplier Part Number 1: C279775; Rated Current: 500mA; DC Resistance: 200mΩ; RoHS: Yes; ComponentLink1Description: Datasheet; ComponentLink1URL: https://wmsc.lcsc.com/wmsc/upload/file/pdf/v2/lcsc/2310301641_Sunlord-SDCL0603Q2N7BT02B03_C279775.pdf; ComponentLink2Description: JLCPCB Part URL; ComponentLink2URL: https://jlcpcb.com/partdetail/C279775; ComponentLink3Description: LCSC Part URL; ComponentLink3URL: https://lcsc.com/product-detail/Inductors-SMD_Sunlord-Sunlord-SDCL0603Q2N7BT02B03_C279775.html
footprint IND-0201 (0201 (0603M) Inductor)
pins: 1, 2

## SDCL0603Q2N8BT02
designator L?  Inductance: 2.8nH
Inductor, 2.8nH, SMD 0201; Manufacturer: Sunlord; Manufacturer Part Number: SDCL0603Q2N8BT02; Package Size: 0201; JLCPCB Basic Part: No; JLCPCB Part Number: C918989; Supplier 1: LCSC; Category: Inductors; Supplier Part Number 1: C918989; RoHS: Yes; ComponentLink1Description: Datasheet; ComponentLink2Description: JLCPCB Part URL; ComponentLink2URL: https://jlcpcb.com/partdetail/C918989; ComponentLink3Description: LCSC Part URL; ComponentLink3URL: https://lcsc.com/product-detail/Inductors-SMD_Sunlord-Sunlord-SDCL0603Q2N8BT02_C918989.html
footprint IND-0201 (0201 (0603M) Inductor)
pins: 1, 2

## SDCL0603Q2N8ST02B01
designator L?  Inductance: 2.8nH
Inductor, 2.8nH, 240mΩ, 300mA, SMD 0201; Manufacturer: Sunlord; Manufacturer Part Number: SDCL0603Q2N8ST02B01; Self-Resonant Frequency: 8.9GHz; Q Factor: 13@500MHz; Package Size: 0201; JLCPCB Basic Part: No; JLCPCB Part Number: C408623; Supplier 1: LCSC; Category: Inductors; Supplier Part Number 1: C408623; Rated Current: 300mA; DC Resistance: 240mΩ; RoHS: Yes; ComponentLink1Description: Datasheet; ComponentLink1URL: https://wmsc.lcsc.com/wmsc/upload/file/pdf/v2/lcsc/2304140030_Sunlord-SDCL0603Q2N8ST02B01_C408623.pdf; ComponentLink2Description: JLCPCB Part URL; ComponentLink2URL: https://jlcpcb.com/partdetail/C408623; ComponentLink3Description: LCSC Part URL; ComponentLink3URL: https://lcsc.com/product-detail/Inductors-SMD_Sunlord-Sunlord-SDCL0603Q2N8ST02B01_C408623.html
footprint IND-0201 (0201 (0603M) Inductor)
pins: 1, 2

## SDCL0603Q3N0BT02B02
designator L?  Inductance: 3nH
Inductor, 3nH, 250mΩ, 450mA, SMD 0201; Manufacturer: Sunlord; Manufacturer Part Number: SDCL0603Q3N0BT02B02; Package Size: 0201; JLCPCB Basic Part: No; JLCPCB Part Number: C279875; Supplier 1: LCSC; Category: Inductors; Supplier Part Number 1: C279875; Rated Current: 450mA; DC Resistance: 250mΩ; RoHS: Yes; ComponentLink1Description: Datasheet; ComponentLink1URL: https://wmsc.lcsc.com/wmsc/upload/file/pdf/v2/lcsc/2304140030_Sunlord-SDCL0603Q3N0BT02B02_C279875.pdf; ComponentLink2Description: JLCPCB Part URL; ComponentLink2URL: https://jlcpcb.com/partdetail/C279875; ComponentLink3Description: LCSC Part URL; ComponentLink3URL: https://lcsc.com/product-detail/Inductors-SMD_Sunlord-Sunlord-SDCL0603Q3N0BT02B02_C279875.html
footprint IND-0201 (0201 (0603M) Inductor)
pins: 1, 2

## SDCL0603Q3N0BT02B03
designator L?  Inductance: 3nH
Inductor, 3nH, 250mΩ, 450mA, SMD 0201; Manufacturer: Sunlord; Manufacturer Part Number: SDCL0603Q3N0BT02B03; Q Factor: 13@500MHz; Package Size: 0201; JLCPCB Basic Part: No; JLCPCB Part Number: C370151; Supplier 1: LCSC; Category: Inductors; Supplier Part Number 1: C370151; Rated Current: 450mA; DC Resistance: 250mΩ; RoHS: Yes; ComponentLink1Description: Datasheet; ComponentLink1URL: https://wmsc.lcsc.com/wmsc/upload/file/pdf/v2/lcsc/2310301641_Sunlord-SDCL0603Q3N0BT02B03_C370151.pdf; ComponentLink2Description: JLCPCB Part URL; ComponentLink2URL: https://jlcpcb.com/partdetail/C370151; ComponentLink3Description: LCSC Part URL; ComponentLink3URL: https://lcsc.com/product-detail/Inductors-SMD_Sunlord-Sunlord-SDCL0603Q3N0BT02B03_C370151.html
footprint IND-0201 (0201 (0603M) Inductor)
pins: 1, 2

## SDCL0603Q3N0ST02B03
designator L?  Inductance: 3nH
Inductor, 3nH, 250mΩ, 450mA, SMD 0201; Manufacturer: Sunlord; Manufacturer Part Number: SDCL0603Q3N0ST02B03; Package Size: 0201; JLCPCB Basic Part: No; JLCPCB Part Number: C279806; Supplier 1: LCSC; Category: Inductors; Supplier Part Number 1: C279806; Rated Current: 450mA; DC Resistance: 250mΩ; RoHS: Yes; ComponentLink1Description: Datasheet; ComponentLink1URL: https://wmsc.lcsc.com/wmsc/upload/file/pdf/v2/lcsc/2310301641_Sunlord-SDCL0603Q3N0ST02B03_C279806.pdf; ComponentLink2Description: JLCPCB Part URL; ComponentLink2URL: https://jlcpcb.com/partdetail/C279806; ComponentLink3Description: LCSC Part URL; ComponentLink3URL: https://lcsc.com/product-detail/Inductors-SMD_Sunlord-Sunlord-SDCL0603Q3N0ST02B03_C279806.html
footprint IND-0201 (0201 (0603M) Inductor)
pins: 1, 2

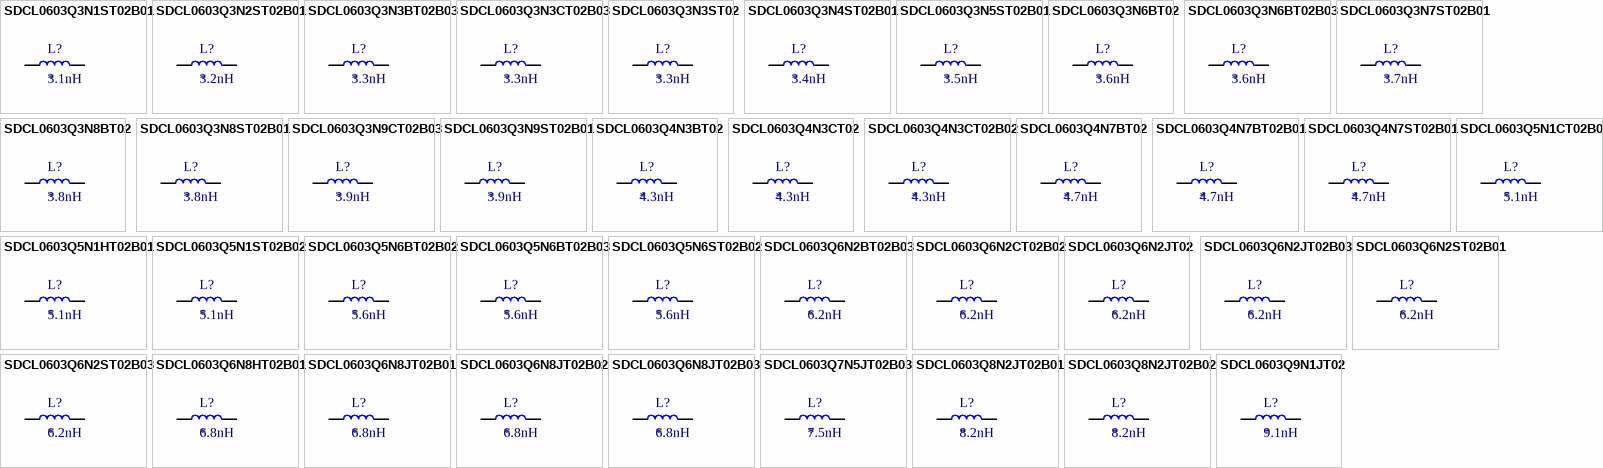
[diagram p8: symbols SDCL0603Q3N1ST02B01 to SDCL0603Q9N1JT02]

## SDCL0603Q3N1ST02B01
designator L?  Inductance: 3.1nH
Inductor, 3.1nH, 280mΩ, 270mA, SMD 0201; Manufacturer: Sunlord; Manufacturer Part Number: SDCL0603Q3N1ST02B01; Self-Resonant Frequency: 8.5GHz; Q Factor: 13@500MHz; Package Size: 0201; JLCPCB Basic Part: No; JLCPCB Part Number: C408625; Supplier 1: LCSC; Category: Inductors; Supplier Part Number 1: C408625; Rated Current: 270mA; DC Resistance: 280mΩ; RoHS: Yes; ComponentLink1Description: Datasheet; ComponentLink1URL: https://wmsc.lcsc.com/wmsc/upload/file/pdf/v2/lcsc/2304140030_Sunlord-SDCL0603Q3N1ST02B01_C408625.pdf; ComponentLink2Description: JLCPCB Part URL; ComponentLink2URL: https://jlcpcb.com/partdetail/C408625; ComponentLink3Description: LCSC Part URL; ComponentLink3URL: https://lcsc.com/product-detail/Inductors-SMD_Sunlord-Sunlord-SDCL0603Q3N1ST02B01_C408625.html
footprint IND-0201 (0201 (0603M) Inductor)
pins: 1, 2

## SDCL0603Q3N2ST02B01
designator L?  Inductance: 3.2nH
Inductor, 3.2nH, 280mΩ, 270mA, SMD 0201; Manufacturer: Sunlord; Manufacturer Part Number: SDCL0603Q3N2ST02B01; Self-Resonant Frequency: 8.2GHz; Q Factor: 13@500MHz; Package Size: 0201; JLCPCB Basic Part: No; JLCPCB Part Number: C408626; Supplier 1: LCSC; Category: Inductors; Supplier Part Number 1: C408626; Rated Current: 270mA; DC Resistance: 280mΩ; RoHS: Yes; ComponentLink1Description: Datasheet; ComponentLink1URL: https://wmsc.lcsc.com/wmsc/upload/file/pdf/v2/lcsc/2304140030_Sunlord-SDCL0603Q3N2ST02B01_C408626.pdf; ComponentLink2Description: JLCPCB Part URL; ComponentLink2URL: https://jlcpcb.com/partdetail/C408626; ComponentLink3Description: LCSC Part URL; ComponentLink3URL: https://lcsc.com/product-detail/Inductors-SMD_Sunlord-Sunlord-SDCL0603Q3N2ST02B01_C408626.html
footprint IND-0201 (0201 (0603M) Inductor)
pins: 1, 2

## SDCL0603Q3N3BT02B03
designator L?  Inductance: 3.3nH
Inductor, 3.3nH, 250mΩ, 450mA, SMD 0201; Manufacturer: Sunlord; Manufacturer Part Number: SDCL0603Q3N3BT02B03; Self-Resonant Frequency: 500MHz; Q Factor: 13@500MHz; Package Size: 0201; JLCPCB Basic Part: No; JLCPCB Part Number: C370157; Supplier 1: LCSC; Category: Inductors; Supplier Part Number 1: C370157; Rated Current: 450mA; DC Resistance: 250mΩ; RoHS: Yes; ComponentLink1Description: Datasheet; ComponentLink1URL: https://wmsc.lcsc.com/wmsc/upload/file/pdf/v2/lcsc/2310301641_Sunlord-SDCL0603Q3N3BT02B03_C370157.pdf; ComponentLink2Description: JLCPCB Part URL; ComponentLink2URL: https://jlcpcb.com/partdetail/C370157; ComponentLink3Description: LCSC Part URL; ComponentLink3URL: https://lcsc.com/product-detail/Inductors-SMD_Sunlord-Sunlord-SDCL0603Q3N3BT02B03_C370157.html
footprint IND-0201 (0201 (0603M) Inductor)
pins: 1, 2

## SDCL0603Q3N3CT02B03
designator L?  Inductance: 3.3nH
Inductor, 3.3nH, 250mΩ, 450mA, SMD 0201; Manufacturer: Sunlord; Manufacturer Part Number: SDCL0603Q3N3CT02B03; Self-Resonant Frequency: 8.1GHz; Q Factor: 13@500MHz; Package Size: 0201; JLCPCB Basic Part: No; JLCPCB Part Number: C2988090; Supplier 1: LCSC; Category: Inductors; Supplier Part Number 1: C2988090; Rated Current: 450mA; DC Resistance: 250mΩ; RoHS: Yes; ComponentLink1Description: Datasheet; ComponentLink1URL: https://wmsc.lcsc.com/wmsc/upload/file/pdf/v2/lcsc/2310301641_Sunlord-SDCL0603Q3N3CT02B03_C2988090.pdf; ComponentLink2Description: JLCPCB Part URL; ComponentLink2URL: https://jlcpcb.com/partdetail/C2988090; ComponentLink3Description: LCSC Part URL; ComponentLink3URL: https://lcsc.com/product-detail/Inductors-SMD_Sunlord-Sunlord-SDCL0603Q3N3CT02B03_C2988090.html
footprint IND-0201 (0201 (0603M) Inductor)
pins: 1, 2

## SDCL0603Q3N3ST02
designator L?  Inductance: 3.3nH
Inductor, 3.3nH, 300mΩ, 270mA, SMD 0201; Manufacturer: Sunlord; Manufacturer Part Number: SDCL0603Q3N3ST02; Package Size: 0201; JLCPCB Basic Part: No; JLCPCB Part Number: C42144; Supplier 1: LCSC; Category: Inductors; Supplier Part Number 1: C42144; Rated Current: 270mA; DC Resistance: 300mΩ; RoHS: Yes; ComponentLink1Description: Datasheet; ComponentLink1URL: https://wmsc.lcsc.com/wmsc/upload/file/pdf/v2/lcsc/2304140030_Sunlord-SDCL0603Q3N3ST02_C42144.pdf; ComponentLink2Description: JLCPCB Part URL; ComponentLink2URL: https://jlcpcb.com/partdetail/C42144; ComponentLink3Description: LCSC Part URL; ComponentLink3URL: https://lcsc.com/product-detail/Inductors-SMD_Sunlord-Sunlord-SDCL0603Q3N3ST02_C42144.html
footprint IND-0201 (0201 (0603M) Inductor)
pins: 1, 2

## SDCL0603Q3N4ST02B01
designator L?  Inductance: 3.4nH
Inductor, 3.4nH, 300mΩ, 270mA, SMD 0201; Manufacturer: Sunlord; Manufacturer Part Number: SDCL0603Q3N4ST02B01; Self-Resonant Frequency: 8GHz; Q Factor: 13@500MHz; Package Size: 0201; JLCPCB Basic Part: No; JLCPCB Part Number: C408627; Supplier 1: LCSC; Category: Inductors; Supplier Part Number 1: C408627; Rated Current: 270mA; DC Resistance: 300mΩ; RoHS: Yes; ComponentLink1Description: Datasheet; ComponentLink1URL: https://wmsc.lcsc.com/wmsc/upload/file/pdf/v2/lcsc/2304140030_Sunlord-SDCL0603Q3N4ST02B01_C408627.pdf; ComponentLink2Description: JLCPCB Part URL; ComponentLink2URL: https://jlcpcb.com/partdetail/C408627; ComponentLink3Description: LCSC Part URL; ComponentLink3URL: https://lcsc.com/product-detail/Inductors-SMD_Sunlord-Sunlord-SDCL0603Q3N4ST02B01_C408627.html
footprint IND-0201 (0201 (0603M) Inductor)
pins: 1, 2

## SDCL0603Q3N5ST02B01
designator L?  Inductance: 3.5nH
Inductor, 3.5nH, 340mΩ, 250mA, SMD 0201; Manufacturer: Sunlord; Manufacturer Part Number: SDCL0603Q3N5ST02B01; Self-Resonant Frequency: 7.9GHz; Q Factor: 13@500MHz; Package Size: 0201; JLCPCB Basic Part: No; JLCPCB Part Number: C408628; Supplier 1: LCSC; Category: Inductors; Supplier Part Number 1: C408628; Rated Current: 250mA; DC Resistance: 340mΩ; RoHS: Yes; ComponentLink1Description: Datasheet; ComponentLink1URL: https://wmsc.lcsc.com/wmsc/upload/file/pdf/v2/lcsc/2304140030_Sunlord-SDCL0603Q3N5ST02B01_C408628.pdf; ComponentLink2Description: JLCPCB Part URL; ComponentLink2URL: https://jlcpcb.com/partdetail/C408628; ComponentLink3Description: LCSC Part URL; ComponentLink3URL: https://lcsc.com/product-detail/Inductors-SMD_Sunlord-Sunlord-SDCL0603Q3N5ST02B01_C408628.html
footprint IND-0201 (0201 (0603M) Inductor)
pins: 1, 2

## SDCL0603Q3N6BT02
designator L?  Inductance: 3.6nH
Inductor, 3.6nH, SMD 0201; Manufacturer: Sunlord; Manufacturer Part Number: SDCL0603Q3N6BT02; Package Size: 0201; JLCPCB Basic Part: No; JLCPCB Part Number: C279676; Supplier 1: LCSC; Category: Inductors; Supplier Part Number 1: C279676; RoHS: Yes; ComponentLink1Description: Datasheet; ComponentLink1URL: https://wmsc.lcsc.com/wmsc/upload/file/pdf/v2/lcsc/2304140030_Sunlord-SDCL0603Q3N6BT02_C279676.pdf; ComponentLink2Description: JLCPCB Part URL; ComponentLink2URL: https://jlcpcb.com/partdetail/C279676; ComponentLink3Description: LCSC Part URL; ComponentLink3URL: https://lcsc.com/product-detail/Inductors-SMD_Sunlord-Sunlord-SDCL0603Q3N6BT02_C279676.html
footprint IND-0201 (0201 (0603M) Inductor)
pins: 1, 2

## SDCL0603Q3N6BT02B03
designator L?  Inductance: 3.6nH
Inductor, 3.6nH, 300mΩ, 400mA, SMD 0201; Manufacturer: Sunlord; Manufacturer Part Number: SDCL0603Q3N6BT02B03; Self-Resonant Frequency: 7.7GHz; Q Factor: 13@500MHz; Package Size: 0201; JLCPCB Basic Part: No; JLCPCB Part Number: C2680668; Supplier 1: LCSC; Category: Inductors; Supplier Part Number 1: C2680668; Rated Current: 400mA; DC Resistance: 300mΩ; RoHS: Yes; ComponentLink1Description: Datasheet; ComponentLink1URL: https://wmsc.lcsc.com/wmsc/upload/file/pdf/v2/lcsc/2310301641_Sunlord-SDCL0603Q3N6BT02B03_C2680668.pdf; ComponentLink2Description: JLCPCB Part URL; ComponentLink2URL: https://jlcpcb.com/partdetail/C2680668; ComponentLink3Description: LCSC Part URL; ComponentLink3URL: https://lcsc.com/product-detail/Inductors-SMD_Sunlord-Sunlord-SDCL0603Q3N6BT02B03_C2680668.html
footprint IND-0201 (0201 (0603M) Inductor)
pins: 1, 2

## SDCL0603Q3N7ST02B01
designator L?  Inductance: 3.7nH
Inductor, 3.7nH, 400mΩ, 230mA, SMD 0201; Manufacturer: Sunlord; Manufacturer Part Number: SDCL0603Q3N7ST02B01; Self-Resonant Frequency: 7.6GHz; Package Size: 0201; JLCPCB Basic Part: No; JLCPCB Part Number: C408629; Supplier 1: LCSC; Category: Inductors; Supplier Part Number 1: C408629; Rated Current: 230mA; DC Resistance: 400mΩ; RoHS: Yes; ComponentLink1Description: Datasheet; ComponentLink1URL: https://wmsc.lcsc.com/wmsc/upload/file/pdf/v2/lcsc/2304140030_Sunlord-SDCL0603Q3N7ST02B01_C408629.pdf; ComponentLink2Description: JLCPCB Part URL; ComponentLink2URL: https://jlcpcb.com/partdetail/C408629; ComponentLink3Description: LCSC Part URL; ComponentLink3URL: https://lcsc.com/product-detail/Inductors-SMD_Sunlord-Sunlord-SDCL0603Q3N7ST02B01_C408629.html
footprint IND-0201 (0201 (0603M) Inductor)
pins: 1, 2

## SDCL0603Q3N8BT02
designator L?  Inductance: 3.8nH
Inductor, 3.8nH, SMD 0201; Manufacturer: Sunlord; Manufacturer Part Number: SDCL0603Q3N8BT02; Package Size: 0201; JLCPCB Basic Part: No; JLCPCB Part Number: C279894; Supplier 1: LCSC; Category: Inductors; Supplier Part Number 1: C279894; RoHS: Yes; ComponentLink1Description: Datasheet; ComponentLink1URL: https://wmsc.lcsc.com/wmsc/upload/file/pdf/v2/lcsc/2304140030_Sunlord-SDCL0603Q3N8BT02_C279894.pdf; ComponentLink2Description: JLCPCB Part URL; ComponentLink2URL: https://jlcpcb.com/partdetail/C279894; ComponentLink3Description: LCSC Part URL; ComponentLink3URL: https://lcsc.com/product-detail/Inductors-SMD_Sunlord-Sunlord-SDCL0603Q3N8BT02_C279894.html
footprint IND-0201 (0201 (0603M) Inductor)
pins: 1, 2

## SDCL0603Q3N8ST02B01
designator L?  Inductance: 3.8nH
Inductor, 3.8nH, 420mΩ, 230mA, SMD 0201; Manufacturer: Sunlord; Manufacturer Part Number: SDCL0603Q3N8ST02B01; Self-Resonant Frequency: 7.5GHz; Q Factor: 13@500MHz; Package Size: 0201; JLCPCB Basic Part: No; JLCPCB Part Number: C408630; Supplier 1: LCSC; Category: Inductors; Supplier Part Number 1: C408630; Rated Current: 230mA; DC Resistance: 420mΩ; RoHS: Yes; ComponentLink1Description: Datasheet; ComponentLink1URL: https://wmsc.lcsc.com/wmsc/upload/file/pdf/v2/lcsc/2304140030_Sunlord-SDCL0603Q3N8ST02B01_C408630.pdf; ComponentLink2Description: JLCPCB Part URL; ComponentLink2URL: https://jlcpcb.com/partdetail/C408630; ComponentLink3Description: LCSC Part URL; ComponentLink3URL: https://lcsc.com/product-detail/Inductors-SMD_Sunlord-Sunlord-SDCL0603Q3N8ST02B01_C408630.html
footprint IND-0201 (0201 (0603M) Inductor)
pins: 1, 2